# EAGLE library part ST25R3916B-AQWT (library custom_library)
RFID Reader/Transponder IC - FeliCa, ISO 14443, ISO 15693, MIFARE, NFC I2C, SPI 2.4V - 5.5V 32-VFQFN Exposed Pad Check availability <https://pricing.snapeda.com/parts/ST25R3916-AQWT/STMicroelectronics/view-part?ref=eda>
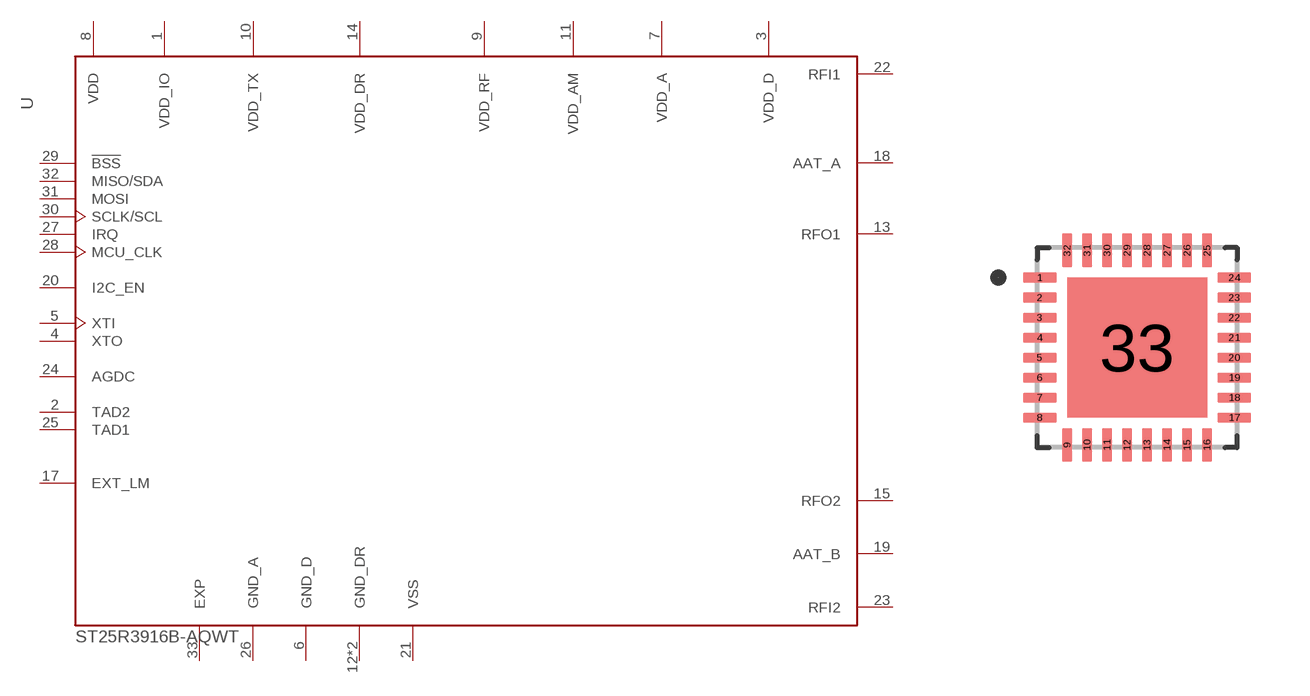
[diagram p8: symbol with the pads of QFN50P500X500X100-33N; footprint QFN50P500X500X100-33N]

Designator prefix U

## ST25R3916B-AQWT (AVAILABILITY: In Stock; DESCRIPTION: RFID Reader/Transponder IC - FeliCa, ISO 14443, ISO 15693, MIFARE, NFC I²C, SPI 2.4V ~ 5.5V 32-VFQFN Exposed Pad; MF: STMicroelectronics; MP: ST25R3916-AQWT; PACKAGE: None; PRICE: None; PURCHASE-URL: https://pricing.snapeda.com/search/part/ST25R3916-AQWT/?ref=eda)  [QFN50P500X500X100-33N]
1  VDD_IO  pwr
2  TAD2  out
3  VDD_D  out
4  XTO  out
5  XTI  in
6  GND_D  pwr
7  VDD_A  out
8  VDD  pwr
9  VDD_RF  out
10  VDD_TX  pwr
11  VDD_AM  out
12  GND_DR  pwr
13  RFO1  out
14  VDD_DR  pwr
15  RFO2  out
16  GND_DR  pwr
17  EXT_LM  out
18  AAT_A  out
19  AAT_B  out
20  I2C_EN  in
21  VSS  pwr
22  RFI1  in
23  RFI2  in
24  AGDC
25  TAD1
26  GND_A  pwr
27  IRQ  out
28  MCU_CLK  out
29  !BSS  in
30  SCLK/SCL  in
31  MOSI  in
32  MISO/SDA
33  EXP  pwr

## Footprint QFN50P500X500X100-33N (pad centres in mm)
smd 0.84 x 0.26: 1 -2.435,1.75; 2 -2.435,1.25; 3 -2.435,0.75; 4 -2.435,0.25; 5 -2.435,-0.25; 6 -2.435,-0.75; 7 -2.435,-1.25; 8 -2.435,-1.75; 17 2.435,-1.75; 18 2.435,-1.25; 19 2.435,-0.75; 20 2.435,-0.25; 21 2.435,0.25; 22 2.435,0.75; 23 2.435,1.25; 24 2.435,1.75
smd 0.26 x 0.84: 9 -1.75,-2.435; 10 -1.25,-2.435; 11 -0.75,-2.435; 12 -0.25,-2.435; 13 0.25,-2.435; 14 0.75,-2.435; 15 1.25,-2.435; 16 1.75,-2.435; 25 1.75,2.435; 26 1.25,2.435; 27 0.75,2.435; 28 0.25,2.435; 29 -0.25,2.435; 30 -0.75,2.435; 31 -1.25,2.435; 32 -1.75,2.435
smd 3.5 x 3.5: 33 0,0